# EAGLE library part 2P2T* (library mita-akiba)
2-port 2-throw switch in Sengoku
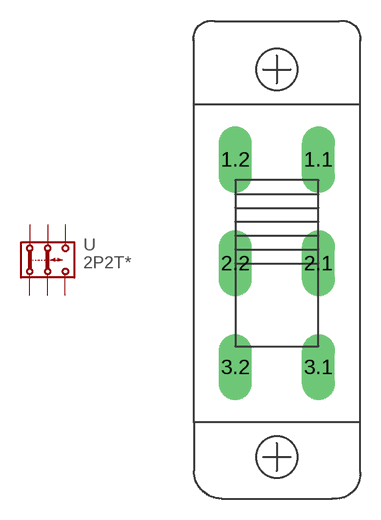
[diagram p69: symbol with the pads of SW6P35MM; footprint SW6P35MM]

Designator prefix -

## 2P2T35MM  [SW6P35MM]
1.1  1.1  pas
1.2  1.2  pas
2.1  2.1  pas
2.2  2.2  pas
3.1  3.1  pas
3.2  3.2  pas

## Footprint SW6P35MM (pad centres in mm)
drill 1.6 long: 1.1 3,7.5; 1.2 -3,7.5; 2.1 3,0; 2.2 -3,0; 3.1 3,-7.5; 3.2 -3,-7.5